# Altium schematic symbol library DS1818R-5.SchLib: 1 symbol
Pins are listed as number, name and electrical type; pins without a type are passive.

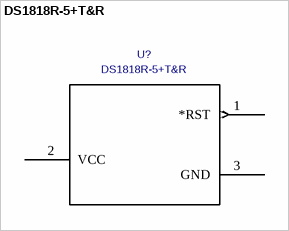
[diagram p0: symbol DS1818R-5+T&R]

## DS1818R-5+T&R
designator U?
Built_By: EMA_UL_Team; Vendor: Maxim Integrated Products; Value: DS1818R-5+T&R; Manufacturer_Part_Number: DS1818R-5+T&R
footprint 21-0051H
pins: 1 *RST (out), 2 VCC (power), 3 GND (power)